# Altium footprint library LAUNCHXL-F28379D-REV2.0.PcbLib: 47 footprints (part 1 of 3)
Each footprint in its own frame and in the unit in brackets; x right, y up, seen from the top. Pads: shape width x height; smd on the part's side, far side on the other; paste and mask are expansions set on the pad; w line width, h text height; cw(c..) or ccw(c..) is an arc to the next point about the centre after c.
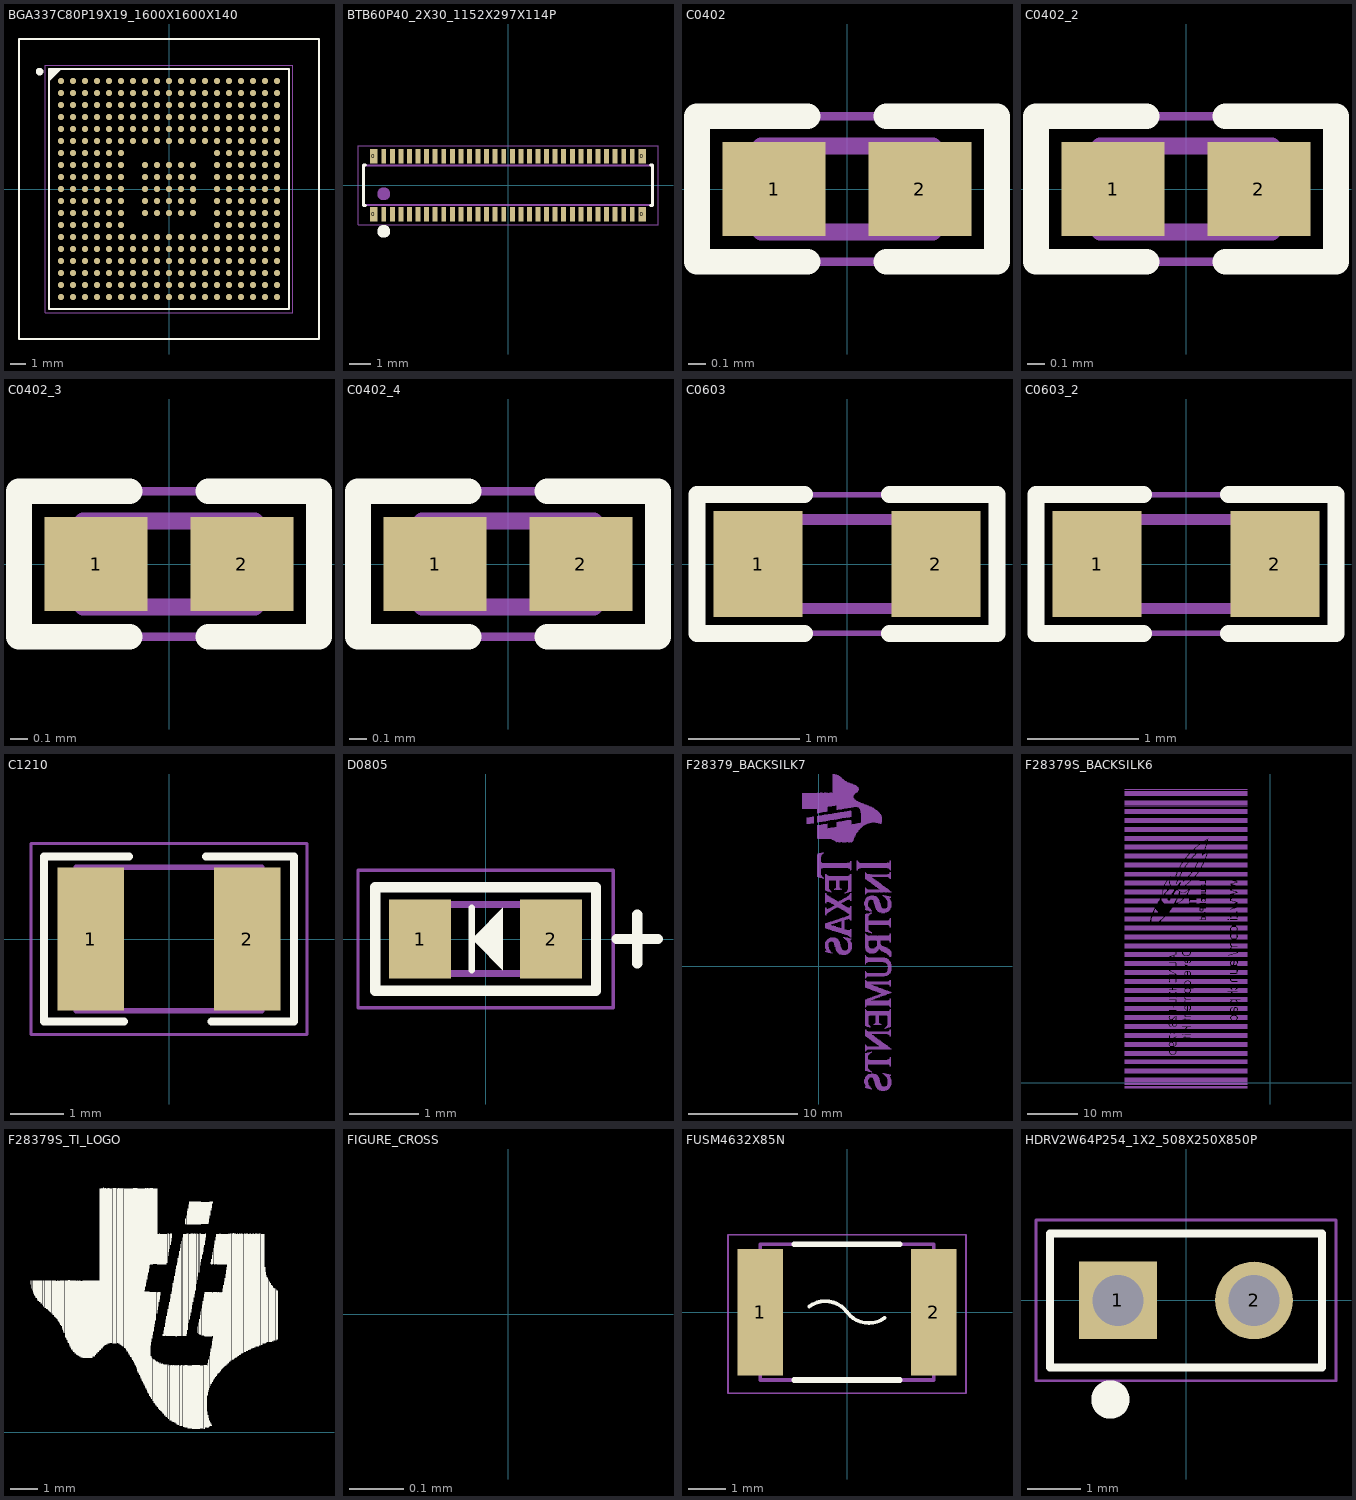
[diagram p0: the footprints below, top view; thin cyan lines are the x and y axes]

## BGA337C80P19X19_1600X1600X140 [mm]
pads (337):
  round 0.4 smd mask+0.1: A1(-7.2,7.2) A2(-6.4,7.2) A3(-5.6,7.2) A4(-4.8,7.2) A5(-4,7.2) A6(-3.2,7.2) A7(-2.4,7.2) A8(-1.6,7.2) A9(-0.8,7.2) A10(0,7.2) A11(0.8,7.2) A12(1.6,7.2) A13(2.4,7.2) A14(3.2,7.2) A15(4,7.2) A16(4.8,7.2) A17(5.6,7.2) A18(6.4,7.2) A19(7.2,7.2) B1(-7.2,6.4) B2(-6.4,6.4) B3(-5.6,6.4) B4(-4.8,6.4) B5(-4,6.4) B6(-3.2,6.4) B7(-2.4,6.4) B8(-1.6,6.4) B9(-0.8,6.4) B10(0,6.4) B11(0.8,6.4) B12(1.6,6.4) B13(2.4,6.4) B14(3.2,6.4) B15(4,6.4) B16(4.8,6.4) B17(5.6,6.4) B18(6.4,6.4) B19(7.2,6.4) C1(-7.2,5.6) C2(-6.4,5.6) C3(-5.6,5.6) C4(-4.8,5.6) C5(-4,5.6) C6(-3.2,5.6) C7(-2.4,5.6) C8(-1.6,5.6) C9(-0.8,5.6) C10(0,5.6) C11(0.8,5.6) C12(1.6,5.6) C13(2.4,5.6) C14(3.2,5.6) C15(4,5.6) C16(4.8,5.6) C17(5.6,5.6) C18(6.4,5.6) C19(7.2,5.6) D1(-7.2,4.8) D2(-6.4,4.8) D3(-5.6,4.8) D4(-4.8,4.8) D5(-4,4.8) D6(-3.2,4.8) D7(-2.4,4.8) D8(-1.6,4.8) D9(-0.8,4.8) D10(0,4.8) D11(0.8,4.8) D12(1.6,4.8) D13(2.4,4.8) D14(3.2,4.8) D15(4,4.8) D16(4.8,4.8) D17(5.6,4.8) D18(6.4,4.8) D19(7.2,4.8) E1(-7.2,4) E2(-6.4,4) E3(-5.6,4) E4(-4.8,4) E5(-4,4) E6(-3.2,4) E7(-2.4,4) E8(-1.6,4) E9(-0.8,4) E10(0,4) E11(0.8,4) E12(1.6,4) E13(2.4,4) E14(3.2,4) E15(4,4) E16(4.8,4) E17(5.6,4) E18(6.4,4) E19(7.2,4) F1(-7.2,3.2) F2(-6.4,3.2) F3(-5.6,3.2) F4(-4.8,3.2) F5(-4,3.2) F6(-3.2,3.2) F7(-2.4,3.2) F8(-1.6,3.2) F9(-0.8,3.2) F10(0,3.2) F11(0.8,3.2) F12(1.6,3.2) F13(2.4,3.2) F14(3.2,3.2) F15(4,3.2) F16(4.8,3.2) F17(5.6,3.2) F18(6.4,3.2) F19(7.2,3.2) G1(-7.2,2.4) G2(-6.4,2.4) G3(-5.6,2.4) G4(-4.8,2.4) G5(-4,2.4) G6(-3.2,2.4) G14(3.2,2.4) G15(4,2.4) G16(4.8,2.4) G17(5.6,2.4) G18(6.4,2.4) G19(7.2,2.4) H1(-7.2,1.6) H2(-6.4,1.6) H3(-5.6,1.6) H4(-4.8,1.6) H5(-4,1.6) H6(-3.2,1.6) H8(-1.6,1.6) H9(-0.8,1.6) H10(0,1.6) H11(0.8,1.6) H12(1.6,1.6) H14(3.2,1.6) H15(4,1.6) H16(4.8,1.6) H17(5.6,1.6) H18(6.4,1.6) H19(7.2,1.6) J1(-7.2,0.8) J2(-6.4,0.8) J3(-5.6,0.8) J4(-4.8,0.8) J5(-4,0.8) J6(-3.2,0.8) J8(-1.6,0.8) J9(-0.8,0.8) J10(0,0.8) J11(0.8,0.8) J12(1.6,0.8) J14(3.2,0.8) J15(4,0.8) J16(4.8,0.8) J17(5.6,0.8) J18(6.4,0.8) J19(7.2,0.8) K1(-7.2,0) K2(-6.4,0) K3(-5.6,0) K4(-4.8,0) K5(-4,0) K6(-3.2,0) K8(-1.6,0) K9(-0.8,0) K10(0,0) K11(0.8,0) K12(1.6,0) K14(3.2,0) K15(4,0) K16(4.8,0) K17(5.6,0) K18(6.4,0) K19(7.2,0) L1(-7.2,-0.8) L2(-6.4,-0.8) L3(-5.6,-0.8) L4(-4.8,-0.8) L5(-4,-0.8) L6(-3.2,-0.8) L8(-1.6,-0.8) L9(-0.8,-0.8) L10(0,-0.8) L11(0.8,-0.8) L12(1.6,-0.8) L14(3.2,-0.8) L15(4,-0.8) L16(4.8,-0.8) L17(5.6,-0.8) L18(6.4,-0.8) L19(7.2,-0.8) M1(-7.2,-1.6) M2(-6.4,-1.6) M3(-5.6,-1.6) M4(-4.8,-1.6) M5(-4,-1.6) M6(-3.2,-1.6) M8(-1.6,-1.6) M9(-0.8,-1.6) M10(0,-1.6) M11(0.8,-1.6) M12(1.6,-1.6) M14(3.2,-1.6) M15(4,-1.6) M16(4.8,-1.6) M17(5.6,-1.6) M18(6.4,-1.6) M19(7.2,-1.6) N1(-7.2,-2.4) N2(-6.4,-2.4) N3(-5.6,-2.4) N4(-4.8,-2.4) N5(-4,-2.4) N6(-3.2,-2.4) N14(3.2,-2.4) N15(4,-2.4) N16(4.8,-2.4) N17(5.6,-2.4) N18(6.4,-2.4) N19(7.2,-2.4) P1(-7.2,-3.2) P2(-6.4,-3.2) P3(-5.6,-3.2) P4(-4.8,-3.2) P5(-4,-3.2) P6(-3.2,-3.2) P7(-2.4,-3.2) P8(-1.6,-3.2) P9(-0.8,-3.2) P10(0,-3.2) P11(0.8,-3.2) P12(1.6,-3.2) P13(2.4,-3.2) P14(3.2,-3.2) P15(4,-3.2) P16(4.8,-3.2) P17(5.6,-3.2) P18(6.4,-3.2) P19(7.2,-3.2) R1(-7.2,-4) R2(-6.4,-4) R3(-5.6,-4) R4(-4.8,-4) R5(-4,-4) R6(-3.2,-4) R7(-2.4,-4) R8(-1.6,-4) R9(-0.8,-4) R10(0,-4) R11(0.8,-4) R12(1.6,-4) R13(2.4,-4) R14(3.2,-4) R15(4,-4) R16(4.8,-4) R17(5.6,-4) R18(6.4,-4) R19(7.2,-4) T1(-7.2,-4.8) T2(-6.4,-4.8) T3(-5.6,-4.8) T4(-4.8,-4.8) T5(-4,-4.8) T6(-3.2,-4.8) T7(-2.4,-4.8) T8(-1.6,-4.8) T9(-0.8,-4.8) T10(0,-4.8) T11(0.8,-4.8) T12(1.6,-4.8) T13(2.4,-4.8) T14(3.2,-4.8) T15(4,-4.8) T16(4.8,-4.8) T17(5.6,-4.8) T18(6.4,-4.8) T19(7.2,-4.8) U1(-7.2,-5.6) U2(-6.4,-5.6) U3(-5.6,-5.6) U4(-4.8,-5.6) U5(-4,-5.6) U6(-3.2,-5.6) U7(-2.4,-5.6) U8(-1.6,-5.6) U9(-0.8,-5.6) U10(0,-5.6) U11(0.8,-5.6) U12(1.6,-5.6) U13(2.4,-5.6) U14(3.2,-5.6) U15(4,-5.6) U16(4.8,-5.6) U17(5.6,-5.6) U18(6.4,-5.6) U19(7.2,-5.6) V1(-7.2,-6.4) V2(-6.4,-6.4) V3(-5.6,-6.4) V4(-4.8,-6.4) V5(-4,-6.4) V6(-3.2,-6.4) V7(-2.4,-6.4) V8(-1.6,-6.4) V9(-0.8,-6.4) V10(0,-6.4) V11(0.8,-6.4) V12(1.6,-6.4) V13(2.4,-6.4) V14(3.2,-6.4) V15(4,-6.4) V16(4.8,-6.4) V17(5.6,-6.4) V18(6.4,-6.4) V19(7.2,-6.4) W1(-7.2,-7.2) W2(-6.4,-7.2) W3(-5.6,-7.2) W4(-4.8,-7.2) W5(-4,-7.2) W6(-3.2,-7.2) W7(-2.4,-7.2) W8(-1.6,-7.2) W9(-0.8,-7.2) W10(0,-7.2) W11(0.8,-7.2) W12(1.6,-7.2) W13(2.4,-7.2) W14(3.2,-7.2) W15(4,-7.2) W16(4.8,-7.2) W17(5.6,-7.2) W18(6.4,-7.2) W19(7.2,-7.2)
Top Overlay:
  circle w0.25: c-8.625,7.825 r0.125
  region: -7.249,8 -8,7.249 -8,8
  lines w0.15: -8,7.249 -7.249,8 ; -10,-10 10,-10 10,10 -10,10 -10,-10 ; -8,-8 -8,8 8,8 8,-8 -8,-8
Mechanical 14:
  lines w0.1: -8,-8 -8,8 8,8 8,-8 -8,-8
Mechanical 16:
  lines w0.05: -8.25,-8.25 -8.25,8.25 8.25,8.25 8.25,-8.25 -8.25,-8.25
3D body: height 1.4, standoff 0.45, extent -8,-8 8,8

## BTB60P40_2X30_1152X297X114P [mm]
pads (64):
  rect 0.35x0.66 smd paste+0 mask+0.1: 0(-6.275,-1.355) 0(-6.275,1.355) 0(6.275,-1.355) 0(6.275,1.355)
  rect 0.23x0.66 smd paste+0 mask+0.1: 1(-5.8,1.355) 2(-5.8,-1.355) 3(-5.4,1.355) 4(-5.4,-1.355) 5(-5,1.355) 6(-5,-1.355) 7(-4.6,1.355) 8(-4.6,-1.355) 9(-4.2,1.355) 10(-4.2,-1.355) 11(-3.8,1.355) 12(-3.8,-1.355) 13(-3.4,1.355) 14(-3.4,-1.355) 15(-3,1.355) 16(-3,-1.355) 17(-2.6,1.355) 18(-2.6,-1.355) 19(-2.2,1.355) 20(-2.2,-1.355) 21(-1.8,1.355) 22(-1.8,-1.355) 23(-1.4,1.355) 24(-1.4,-1.355) 25(-1,1.355) 26(-1,-1.355) 27(-0.6,1.355) 28(-0.6,-1.355) 29(-0.2,1.355) 30(-0.2,-1.355) 31(0.2,1.355) 32(0.2,-1.355) 33(0.6,1.355) 34(0.6,-1.355) 35(1,1.355) 36(1,-1.355) 37(1.4,1.355) 38(1.4,-1.355) 39(1.8,1.355) 40(1.8,-1.355) 41(2.2,1.355) 42(2.2,-1.355) 43(2.6,1.355) 44(2.6,-1.355) 45(3,1.355) 46(3,-1.355) 47(3.4,1.355) 48(3.4,-1.355) 49(3.8,1.355) 50(3.8,-1.355) 51(4.2,1.355) 52(4.2,-1.355) 53(4.6,1.355) 54(4.6,-1.355) 55(5,1.355) 56(5,-1.355) 57(5.4,1.355) 58(5.4,-1.355) 59(5.8,1.355) 60(5.8,-1.355)
Top Overlay:
  circle w0.5: c-5.8,-2.15 r0.05
  lines w0.15: -6.65,-0.95 -6.75,-0.95 -6.75,0.95 -6.65,0.95 ; 6.65,-0.95 6.75,-0.95 6.75,0.95 6.65,0.95
Mechanical 14:
  circle w0.5: c-5.8,-0.4 r0.05
  lines w0.1: -6.76,-0.925 -6.76,0.925 6.76,0.925 6.76,-0.925 -6.76,-0.925
Mechanical 16:
  lines w0.05: -7,-1.85 -7,1.85 -6.3,1.85 7,1.85 7,-1.85 -7,-1.85

## C0402 [mm]
pads (2):
  rect 0.6x0.55 smd mask+0.1: 1(-0.425,0) 2(0.425,0)
Top Overlay:
  lines w0.15: -0.23,-0.425 -0.875,-0.425 -0.875,0.425 -0.78,0.425 -0.23,0.425 ; 0.23,-0.425 0.875,-0.425 0.875,0.42 ; 0.23,0.425 0.875,0.425
Mechanical 14:
  lines w0.1: -0.5,-0.25 0.5,-0.25 0.5,0.25 -0.5,0.25 -0.5,-0.25
Mechanical 16:
  lines w0.05: -0.85,-0.425 0.85,-0.425 0.85,0.425 -0.85,0.425 -0.85,-0.425
3D body: height 0.55, standoff 0, extent 0.275,-0.275 0.525,0.275
3D body: height 0.55, standoff 0, extent -0.525,-0.275 -0.275,0.275
3D body: height 0.55, standoff 0, extent -0.275,-0.275 0.275,0.275

## C0402_2 [mm]
pads (2):
  rect 0.6x0.55 smd mask+0.1: 1(-0.425,0) 2(0.425,0)
Top Overlay:
  lines w0.15: -0.23,-0.425 -0.875,-0.425 -0.875,0.425 -0.78,0.425 -0.23,0.425 ; 0.23,-0.425 0.875,-0.425 0.875,0.42 ; 0.23,0.425 0.875,0.425
Mechanical 14:
  lines w0.1: -0.5,-0.25 0.5,-0.25 0.5,0.25 -0.5,0.25 -0.5,-0.25
Mechanical 16:
  lines w0.05: -0.85,-0.425 0.85,-0.425 0.85,0.425 -0.85,0.425 -0.85,-0.425
3D body: height 0.55, standoff 0, extent 0.275,-0.275 0.525,0.275
3D body: height 0.55, standoff 0, extent -0.525,-0.275 -0.275,0.275
3D body: height 0.55, standoff 0, extent -0.275,-0.275 0.275,0.275

## C0402_3 [mm]
pads (2):
  rect 0.6x0.55 smd mask+0.1: 1(-0.425,0) 2(0.425,0)
Top Overlay:
  lines w0.15: -0.23,-0.425 -0.875,-0.425 -0.875,0.425 -0.78,0.425 -0.23,0.425 ; 0.23,-0.425 0.875,-0.425 0.875,0.42 ; 0.23,0.425 0.875,0.425
Mechanical 14:
  lines w0.1: -0.5,-0.25 0.5,-0.25 0.5,0.25 -0.5,0.25 -0.5,-0.25
Mechanical 16:
  lines w0.05: -0.85,-0.425 0.85,-0.425 0.85,0.425 -0.85,0.425 -0.85,-0.425
3D body: height 0.55, standoff 0, extent 0.275,-0.275 0.525,0.275
3D body: height 0.55, standoff 0, extent -0.525,-0.275 -0.275,0.275
3D body: height 0.55, standoff 0, extent -0.275,-0.275 0.275,0.275

## C0402_4 [mm]
pads (2):
  rect 0.6x0.55 smd mask+0.1: 1(-0.425,0) 2(0.425,0)
Top Overlay:
  lines w0.15: -0.23,-0.425 -0.875,-0.425 -0.875,0.425 -0.78,0.425 -0.23,0.425 ; 0.23,-0.425 0.875,-0.425 0.875,0.42 ; 0.23,0.425 0.875,0.425
Mechanical 14:
  lines w0.1: -0.5,-0.25 0.5,-0.25 0.5,0.25 -0.5,0.25 -0.5,-0.25
Mechanical 16:
  lines w0.05: -0.85,-0.425 0.85,-0.425 0.85,0.425 -0.85,0.425 -0.85,-0.425
3D body: height 0.55, standoff 0, extent 0.275,-0.275 0.525,0.275
3D body: height 0.55, standoff 0, extent -0.525,-0.275 -0.275,0.275
3D body: height 0.55, standoff 0, extent -0.275,-0.275 0.275,0.275

## C0603 [mm]
pads (2):
  rect 0.8x0.95 smd mask+0.1: 1(-0.8,0) 2(0.8,0)
Top Overlay:
  lines w0.15: -0.381,-0.625 -1.35,-0.625 -1.35,0.625 -0.381,0.625 ; 0.381,-0.625 1.35,-0.625 1.35,0.625 0.381,0.625
Mechanical 14:
  lines w0.1: -0.8,-0.4 -0.8,0.4 0.8,0.4 0.8,-0.4 -0.8,-0.4
Mechanical 16:
  lines w0.05: -1.35,-0.625 -1.35,0.625 1.35,0.625 1.35,-0.625 -1.35,-0.625
3D body "User Library-CAPC1608X09.STEP": height 0.9, standoff 0, extent -0.8,-0.4 0.8,0.4

## C0603_2 [mm]
pads (2):
  rect 0.8x0.95 smd mask+0.1: 1(-0.8,0) 2(0.8,0)
Top Overlay:
  lines w0.15: -0.381,-0.625 -1.35,-0.625 -1.35,0.625 -0.381,0.625 ; 0.381,-0.625 1.35,-0.625 1.35,0.625 0.381,0.625
Mechanical 14:
  lines w0.1: -0.8,-0.4 -0.8,0.4 0.8,0.4 0.8,-0.4 -0.8,-0.4
Mechanical 16:
  lines w0.05: -1.35,-0.625 -1.35,0.625 1.35,0.625 1.35,-0.625 -1.35,-0.625
3D body "User Library-CAPC1608X09.STEP": height 0.9, standoff 0, extent -0.8,-0.4 0.8,0.4

## C1210 [mm]
pads (2):
  rect 1.25x2.7 smd mask+0.1: 1(-1.475,0) 2(1.475,0)
Top Overlay:
  lines w0.15: -0.85,-1.55 -2.35,-1.55 -2.35,1.55 -0.75,1.55 ; 0.7,1.55 2.35,1.55 2.35,-1.55 0.8,-1.55
Mechanical 14:
  lines w0.1: -1.75,-1.35 -1.75,1.35 1.75,1.35 1.75,-1.35 -1.75,-1.35
Mechanical 16:
  lines w0.05: -2.6,-1.8 -2.6,1.8 -0.75,1.8 2.6,1.8 2.6,-1.8 -2.6,-1.8
3D body: height 2.7, standoff 0, extent -1.3,-1.35 1.3,1.35
3D body: height 2.7, standoff 0, extent -1.75,-1.35 -1.3,1.35
3D body: height 2.7, standoff 0, extent 1.3,-1.35 1.75,1.35

## D0805 [mm]
pads (2):
  rect 0.9x1.15 smd paste+0 mask+0.1: 1(-0.95,0) 2(0.95,0)
Top Overlay:
  region: -0.15,0.05 0.25,0.45 0.25,-0.45 -0.15,-0.05
  lines w0.1: -0.2,-0.45 -0.2,0.45
  lines w0.15: 1.9,0 2.5,0 ; 2.2,-0.35 2.2,0.35 ; -1.6,-0.75 1.6,-0.75 1.6,0.75 -1.6,0.75 -1.6,-0.75
Mechanical 14:
  rectangle: -1,-0.5 -0.5,0.5
  lines w0.1: 1.95,0 2.45,0 ; 2.2,-0.25 2.2,0.25 ; -1,-0.5 -1,0.5 1,0.5 1,-0.5 -1,-0.5
Mechanical 16:
  lines w0.05: -1.85,-1 1.85,-1 1.85,1 -1.85,1 -1.85,-1

## F28379_BACKSILK7 [mm]
Bottom Overlay:
  drawing of 3194 lines, arcs and shapes, not listed

## F28379S_BACKSILK6 [mm]
Bottom Overlay:
  drawing of 8117 lines, arcs and shapes, not listed
  text "C:/Documents and Settings/gk29/×ÀÃæ/F28379D_LP_Rear_Silk_Template_80Pin.bmp" at -29.21,-1.4 h0.06

## F28379S_TI_LOGO [mm]
Top Overlay:
  drawing of 555 lines, arcs and shapes, not listed

## FIGURE_CROSS [mm]
Drill Drawing:
  lines w0.001: -0.275,0 0.275,0 ; 0,-0.275 0,0.275

## FUSM4632X85N [mm]
pads (2):
  rect 1.2x3.35 smd paste+0 mask+0.1: 1(-2.3,0) 2(2.3,0)
Top Overlay:
  lines w0.1: -1,0.15 cw(c-0.575,-0.425) 0,0 ccw(c0.575,0.425) 1,-0.15
  lines w0.15: -1.4,-1.8 1.4,-1.8 ; -1.4,1.8 1.4,1.8
Mechanical 14:
  lines w0.1: -2.3,-1.8 2.3,-1.8 2.3,1.8 -2.3,1.8 -2.3,-1.8
Mechanical 16:
  lines w0.05: -3.15,-2.15 3.15,-2.15 3.15,2.05 -3.15,2.05 -3.15,-2.15

## HDRV2W64P254_1X2_508X250X850P [mm]
pads (2):
  rect 1.45x1.45 hole 0.95 mask+0.1: 1(-1.27,0)
  round 1.45 hole 0.95 mask+0.1: 2(1.27,0)
Top Overlay:
  circle w0.4: c-1.41,-1.85 r0.158
  lines w0.15: -2.54,-1.25 -2.54,1.25 -2.49,1.25 2.54,1.25 2.54,-1.25 -2.54,-1.25
Mechanical 14:
  circle w0.4: c-1.41,-1.85 r0.112
  lines w0.1: 2.51,1.25 2.54,1.25 ; 2.54,1.25 2.54,-1.25 -2.54,-1.25 -2.54,1.25 2.54,1.25
Mechanical 16:
  lines w0.05: -2.8,-1.5 -2.8,1.5 -2,1.5 2.8,1.5 2.8,-1.5 -2.8,-1.5